# EAGLE library part FAN7190 (library lolomolo)
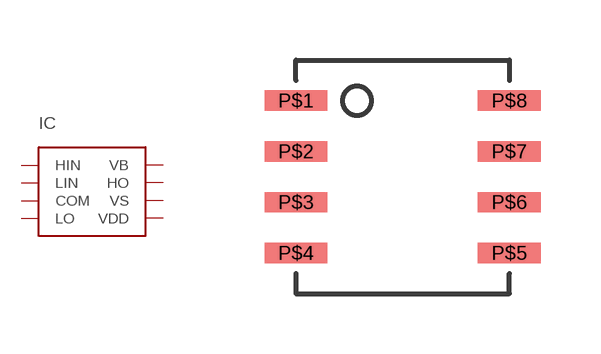
[diagram p18: symbol with the pads of SOIC-8; footprint SOIC-8]

Designator prefix IC

## FAN7190  [SOIC-8]
P$1  HIN
P$2  LIN
P$3  COM
P$4  LO
P$5  VDD
P$6  VS
P$7  HO
P$8  VB

## Footprint SOIC-8 (pad centres in mm)
smd 1.575 x 0.508: P$1 0,3.81; P$2 0,2.54; P$3 0,1.27; P$4 0,0; P$5 5.334,0; P$6 5.334,1.27; P$7 5.334,2.54; P$8 5.334,3.81